# Altium footprint library Connector_Dsub.PcbLib: 120 footprints (part 4 of 8)
Each footprint in its own frame and in the unit in brackets; x right, y up, seen from the top. Pads: shape width x height; smd on the part's side, far side on the other; paste and mask are expansions set on the pad; w line width, h text height; cw(c..) or ccw(c..) is an arc to the next point about the centre after c.
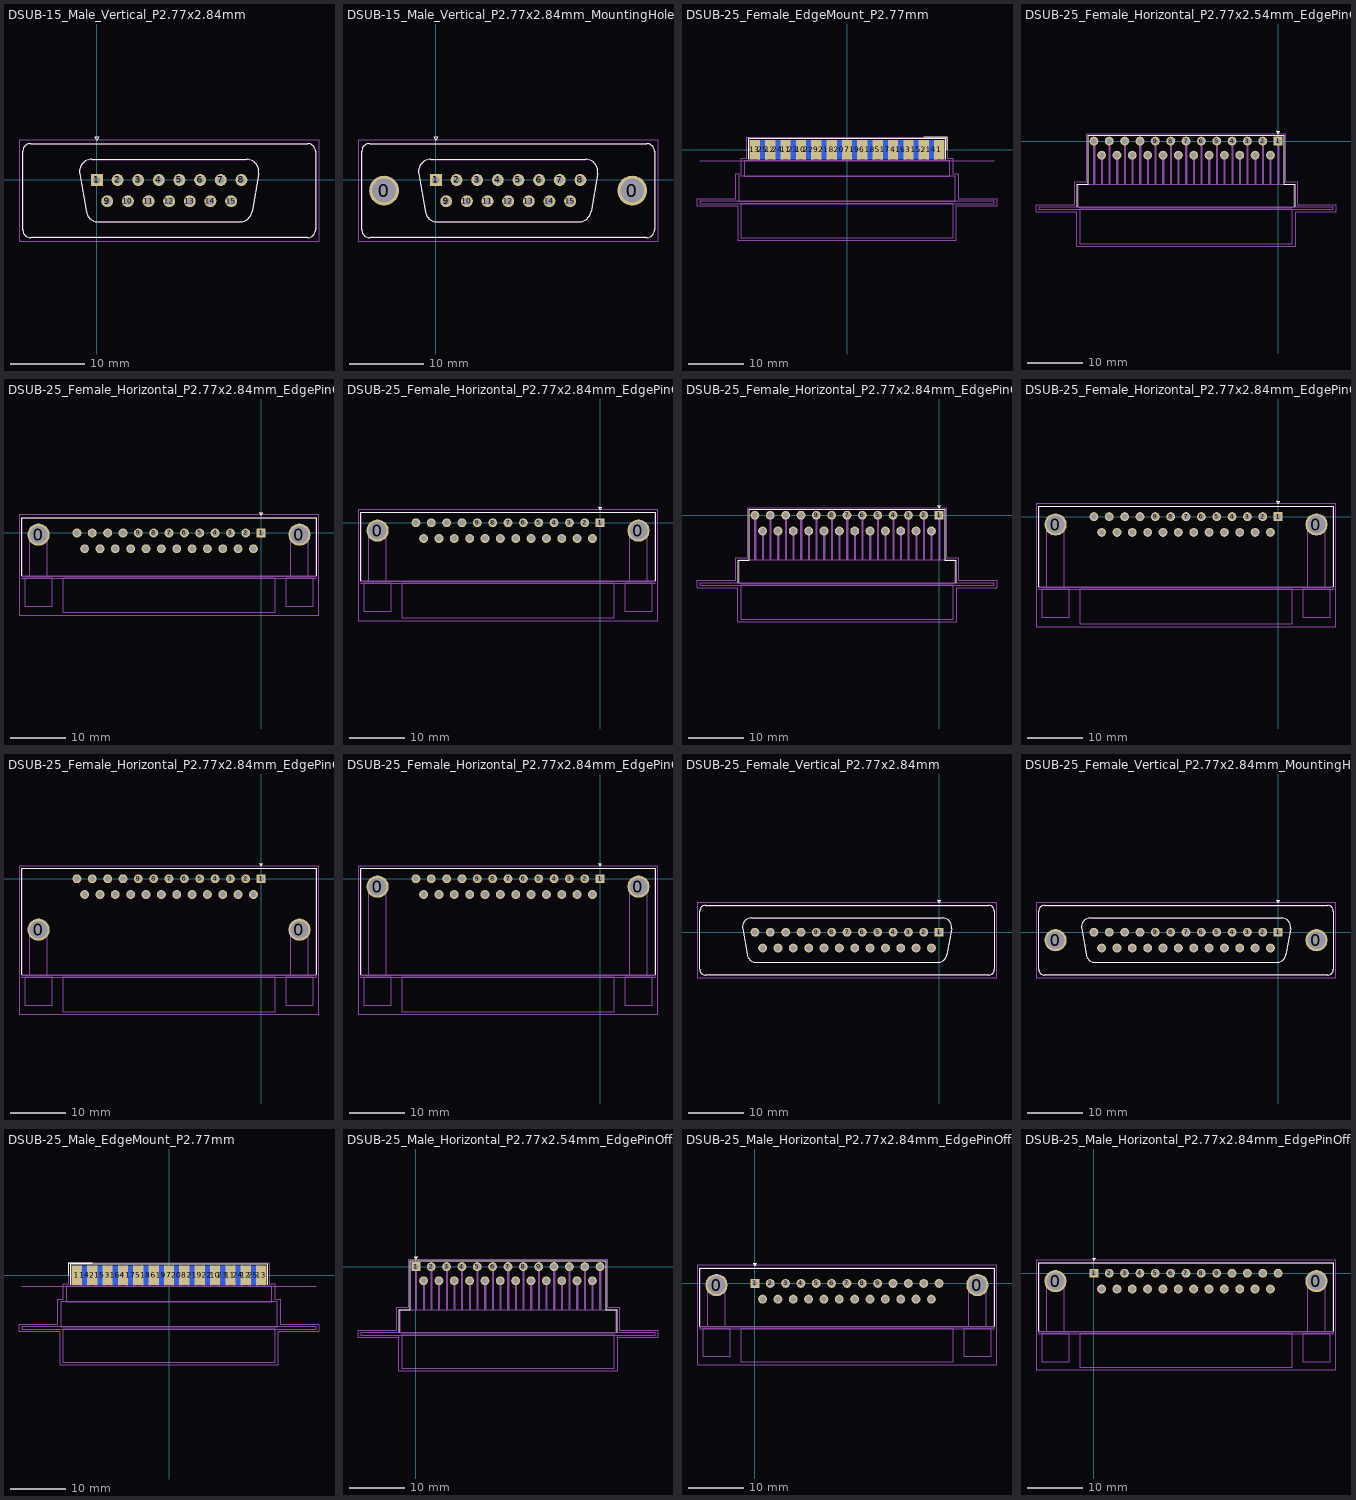
[diagram p3: the footprints below, top view; thin cyan lines are the x and y axes]

## DSUB-15_Male_Vertical_P2.77x2.84mm [mm]
pads (15):
  rect 1.6x1.6 hole 1: 1(0,0)
  round 1.6 hole 1: 2(2.77,0) 3(5.54,0) 4(8.31,0) 5(11.08,0) 6(13.85,0) 7(16.62,0) 8(19.39,0) 9(1.385,-2.84) 10(4.155,-2.84) 11(6.925,-2.84) 12(9.695,-2.84) 13(12.465,-2.84) 14(15.235,-2.84) 15(18.005,-2.84)
F.SilkS:
  lines w0.12: -9.965,-6.67 -9.965,3.83 cw(c-8.905,3.83) -8.905,4.89 28.295,4.89 cw(c28.295,3.83) 29.355,3.83 29.355,-6.67 cw(c28.295,-6.67) 28.295,-7.73 -8.905,-7.73 cw(c-8.905,-6.67) -9.965,-6.67 ; -2.321,0.842 -1.422,-4.258 ccw(c0.213,-3.97) 0.213,-5.63 19.177,-5.63 ccw(c19.177,-3.97) 20.812,-4.258 21.711,0.842 ccw(c20.077,1.13) 20.077,2.79 -0.687,2.79 ccw(c-0.687,1.13) -2.321,0.842 ; -0.25,5.784 0,5.351 0.25,5.784 -0.25,5.784
F.CrtYd:
  lines w0.05: -10.45,-8.2 29.8,-8.2 29.8,5.35 -10.45,5.35 -10.45,-8.2
F.Fab:
  lines w0.1: -9.905,-6.67 -9.905,3.83 cw(c-8.905,3.83) -8.905,4.83 28.295,4.83 cw(c28.295,3.83) 29.295,3.83 29.295,-6.67 cw(c28.295,-6.67) 28.295,-7.67 -8.905,-7.67 cw(c-8.905,-6.67) -9.905,-6.67 ; -2.274,0.852 -1.375,-4.248 ccw(c0.201,-3.97) 0.201,-5.57 19.189,-5.57 ccw(c19.189,-3.97) 20.765,-4.248 21.664,0.852 ccw(c20.088,1.13) 20.088,2.73 -0.698,2.73 ccw(c-0.698,1.13) -2.274,0.852
  text "'.Designator'" at 5.648,-2.26 h1

## DSUB-15_Male_Vertical_P2.77x2.84mm_MountingHoles [mm]
pads (17):
  round 4 hole 3.2: 0(-6.955,-1.42) 0(26.345,-1.42)
  rect 1.6x1.6 hole 1: 1(0,0)
  round 1.6 hole 1: 2(2.77,0) 3(5.54,0) 4(8.31,0) 5(11.08,0) 6(13.85,0) 7(16.62,0) 8(19.39,0) 9(1.385,-2.84) 10(4.155,-2.84) 11(6.925,-2.84) 12(9.695,-2.84) 13(12.465,-2.84) 14(15.235,-2.84) 15(18.005,-2.84)
F.SilkS:
  lines w0.12: -9.965,-6.67 -9.965,3.83 cw(c-8.905,3.83) -8.905,4.89 28.295,4.89 cw(c28.295,3.83) 29.355,3.83 29.355,-6.67 cw(c28.295,-6.67) 28.295,-7.73 -8.905,-7.73 cw(c-8.905,-6.67) -9.965,-6.67 ; -2.321,0.842 -1.422,-4.258 ccw(c0.213,-3.97) 0.213,-5.63 19.177,-5.63 ccw(c19.177,-3.97) 20.812,-4.258 21.711,0.842 ccw(c20.077,1.13) 20.077,2.79 -0.687,2.79 ccw(c-0.687,1.13) -2.321,0.842 ; -0.25,5.784 0.25,5.784 0,5.351 -0.25,5.784
F.CrtYd:
  lines w0.05: -10.45,-8.2 29.8,-8.2 29.8,5.35 -10.45,5.35 -10.45,-8.2
F.Fab:
  lines w0.1: -9.905,-6.67 -9.905,3.83 cw(c-8.905,3.83) -8.905,4.83 28.295,4.83 cw(c28.295,3.83) 29.295,3.83 29.295,-6.67 cw(c28.295,-6.67) 28.295,-7.67 -8.905,-7.67 cw(c-8.905,-6.67) -9.905,-6.67 ; -2.274,0.852 -1.375,-4.248 ccw(c0.201,-3.97) 0.201,-5.57 19.189,-5.57 ccw(c19.189,-3.97) 20.765,-4.248 21.664,0.852 ccw(c20.088,1.13) 20.088,2.73 -0.698,2.73 ccw(c-0.698,1.13) -2.274,0.852
  text "'.Designator'" at 5.648,-2.26 h1

## DSUB-25_Female_EdgeMount_P2.77mm [mm]
pads (25):
  rect 1.847x3.48 smd: 1(16.62,0) 2(13.85,0) 3(11.08,0) 4(8.31,0) 5(5.54,0) 6(2.77,0) 7(0,0) 8(-2.77,0) 9(-5.54,0) 10(-8.31,0) 11(-11.08,0) 12(-13.85,0) 13(-16.62,0)
  rect 1.847x3.48 smd far side: 14(15.235,0) 15(12.465,0) 16(9.695,0) 17(6.925,0) 18(4.155,0) 19(1.385,0) 20(-1.385,0) 21(-4.155,0) 22(-6.925,0) 23(-9.695,0) 24(-12.465,0) 25(-15.235,0)
F.SilkS:
  lines w0.12: -17.803,-1.74 -17.803,2 17.803,2 17.803,-1.74 ; 13.85,2.24 18.043,2.24 18.043,0
Dwgs.User:
  lines w0.05: -26.55,-1.99 26.55,-1.99
  text "PCB edge" at -23.273,-1.732 h0.5
F.CrtYd:
  lines w0.05: -27.05,-10.2 -27.05,-8.8 -20.05,-8.8 -20.05,-4.3 -19.05,-4.3 -19.05,-1.5 -18.05,-1.5 -18.05,2.25 18.05,2.25 18.05,-1.5 19.05,-1.5 19.05,-4.3 20.05,-4.3 20.05,-8.8 27.05,-8.8 27.05,-10.2 19.65,-10.2 19.65,-16.4 -19.65,-16.4 -19.65,-10.2 -27.05,-10.2
B.Fab:
  lines w0.1: -15.835,-1.99 -15.835,0.91 -14.635,0.91 -14.635,-1.99 -15.835,-1.99 ; -13.065,-1.99 -11.865,-1.99 -11.865,0.91 -13.065,0.91 -13.065,-1.99 ; -10.295,-1.99 -10.295,0.91 -9.095,0.91 -9.095,-1.99 -10.295,-1.99 ; -7.525,-1.99 -7.525,0.91 -6.325,0.91 -6.325,-1.99 -7.525,-1.99 ; -4.755,-1.99 -3.555,-1.99 -3.555,0.91 -4.755,0.91 -4.755,-1.99 ; -1.985,-1.99 -1.985,0.91 -0.785,0.91 -0.785,-1.99 -1.985,-1.99 ; 0.785,-1.99 1.985,-1.99 1.985,0.91 0.785,0.91 0.785,-1.99 ; 3.555,-1.99 3.555,0.91 4.755,0.91 4.755,-1.99 3.555,-1.99 ; 6.325,-1.99 7.525,-1.99 7.525,0.91 6.325,0.91 6.325,-1.99 ; 9.095,-1.99 10.295,-1.99 10.295,0.91 9.095,0.91 9.095,-1.99 ; 11.865,-1.99 13.065,-1.99 13.065,0.91 11.865,0.91 11.865,-1.99 ; 14.635,-1.99 14.635,0.91 15.835,0.91 15.835,-1.99 14.635,-1.99
F.Fab:
  lines w0.1: -26.55,-9.69 -26.55,-9.29 26.55,-9.29 26.55,-9.69 -26.55,-9.69 ; -19.55,-9.29 19.55,-9.29 19.55,-4.79 -19.55,-4.79 -19.55,-9.29 ; -19.15,-15.86 19.15,-15.86 19.15,-9.69 -19.15,-9.69 -19.15,-15.86 ; -18.55,-4.79 18.55,-4.79 18.55,-1.99 -18.55,-1.99 -18.55,-4.79 ; -17.22,-1.99 -16.02,-1.99 -16.02,0.91 -17.22,0.91 -17.22,-1.99 ; -14.45,-1.99 -13.25,-1.99 -13.25,0.91 -14.45,0.91 -14.45,-1.99 ; -11.68,-1.99 -10.48,-1.99 -10.48,0.91 -11.68,0.91 -11.68,-1.99 ; -8.91,-1.99 -7.71,-1.99 -7.71,0.91 -8.91,0.91 -8.91,-1.99 ; -6.14,-1.99 -4.94,-1.99 -4.94,0.91 -6.14,0.91 -6.14,-1.99 ; -3.37,-1.99 -3.37,0.91 -2.17,0.91 -2.17,-1.99 -3.37,-1.99 ; -0.6,-1.99 0.6,-1.99 0.6,0.91 -0.6,0.91 -0.6,-1.99 ; 2.17,-1.99 3.37,-1.99 3.37,0.91 2.17,0.91 2.17,-1.99 ; 4.94,-1.99 6.14,-1.99 6.14,0.91 4.94,0.91 4.94,-1.99 ; 7.71,-1.99 8.91,-1.99 8.91,0.91 7.71,0.91 7.71,-1.99 ; 10.48,-1.99 11.68,-1.99 11.68,0.91 10.48,0.91 10.48,-1.99 ; 13.25,-1.99 14.45,-1.99 14.45,0.91 13.25,0.91 13.25,-1.99 ; 16.02,-1.99 16.02,0.91 17.22,0.91 17.22,-1.99 16.02,-1.99
  text "'.Designator'" at -4.047,-4.23 h1

## DSUB-25_Female_Horizontal_P2.77x2.54mm_EdgePinOffset9.40mm [mm]
pads (25):
  rect 1.6x1.6 hole 1: 1(0,0)
  round 1.6 hole 1: 2(-2.77,0) 3(-5.54,0) 4(-8.31,0) 5(-11.08,0) 6(-13.85,0) 7(-16.62,0) 8(-19.39,0) 9(-22.16,0) 10(-24.93,0) 11(-27.7,0) 12(-30.47,0) 13(-33.24,0) 14(-1.385,-2.54) 15(-4.155,-2.54) 16(-6.925,-2.54) 17(-9.695,-2.54) 18(-12.465,-2.54) 19(-15.235,-2.54) 20(-18.005,-2.54) 21(-20.775,-2.54) 22(-23.545,-2.54) 23(-26.315,-2.54) 24(-29.085,-2.54) 25(-31.855,-2.54)
F.SilkS:
  lines w0.12: -36.23,-11.88 -36.23,-7.78 -34.3,-7.78 -34.3,1.06 1.06,1.06 1.06,-7.78 2.99,-7.78 2.99,-11.88 ; -0.25,1.754 0.25,1.754 0,1.321 -0.25,1.754
F.CrtYd:
  lines w0.05: -43.7,-12.85 -36.3,-12.85 -36.3,-19.05 3.05,-19.05 3.05,-12.85 10.45,-12.85 10.45,-11.45 3.45,-11.45 3.45,-7.35 1.3,-7.35 1.3,1.35 -34.55,1.35 -34.55,-7.35 -36.7,-7.35 -36.7,-11.45 -43.7,-11.45 -43.7,-12.85
F.Fab:
  lines w0.1: -33.34,-7.84 -33.34,0 ; -33.24,-7.84 -33.24,0 ; -33.14,-7.84 -33.14,0 ; -31.955,-7.84 -31.955,-2.54 ; -31.855,-7.84 -31.855,-2.54 ; -31.755,-7.84 -31.755,-2.54 ; -30.57,-7.84 -30.57,0 ; -30.47,-7.84 -30.47,0 ; -30.37,-7.84 -30.37,0 ; -29.185,-7.84 -29.185,-2.54 ; -29.085,-7.84 -29.085,-2.54 ; -28.985,-7.84 -28.985,-2.54 ; -27.8,-7.84 -27.8,0 ; -27.7,-7.84 -27.7,0 ; -27.6,-7.84 -27.6,0 ; -26.415,-7.84 -26.415,-2.54 ; -26.315,-7.84 -26.315,-2.54 ; -26.215,-7.84 -26.215,-2.54 ; -25.03,-7.84 -25.03,0 ; -24.93,-7.84 -24.93,0 ; -24.83,-7.84 -24.83,0 ; -23.645,-7.84 -23.645,-2.54 ; -23.545,-7.84 -23.545,-2.54 ; -23.445,-7.84 -23.445,-2.54 ; -22.26,-7.84 -22.26,0 ; -22.16,-7.84 -22.16,0 ; -22.06,-7.84 -22.06,0 ; -20.875,-7.84 -20.875,-2.54 ; -20.775,-7.84 -20.775,-2.54 ; -20.675,-7.84 -20.675,-2.54 ; -19.49,-7.84 -19.49,0 ; -19.39,-7.84 -19.39,0 ; -19.29,-7.84 -19.29,0 ; -18.105,-7.84 -18.105,-2.54 ; -18.005,-7.84 -18.005,-2.54 ; -17.905,-7.84 -17.905,-2.54 ; -16.72,-7.84 -16.72,0 ; -16.62,-7.84 -16.62,0 ; -16.52,-7.84 -16.52,0 ; -15.335,-7.84 -15.335,-2.54 ; -15.235,-7.84 -15.235,-2.54 ; -15.135,-7.84 -15.135,-2.54 ; -13.95,-7.84 -13.95,0 ; -13.85,-7.84 -13.85,0 ; -13.75,-7.84 -13.75,0 ; -12.565,-7.84 -12.565,-2.54 ; -12.465,-7.84 -12.465,-2.54 ; -12.365,-7.84 -12.365,-2.54 ; -11.18,-7.84 -11.18,0 ; -11.08,-7.84 -11.08,0 ; -10.98,-7.84 -10.98,0 ; -9.795,-7.84 -9.795,-2.54 ; -9.695,-7.84 -9.695,-2.54 ; -9.595,-7.84 -9.595,-2.54 ; -8.41,-7.84 -8.41,0 ; -8.31,-7.84 -8.31,0 ; -8.21,-7.84 -8.21,0 ; -7.025,-7.84 -7.025,-2.54 ; -6.925,-7.84 -6.925,-2.54 ; -6.825,-7.84 -6.825,-2.54 ; -5.64,-7.84 -5.64,0 ; -5.54,-7.84 -5.54,0 ; -5.44,-7.84 -5.44,0 ; -4.255,-7.84 -4.255,-2.54 ; -4.155,-7.84 -4.155,-2.54 ; -4.055,-7.84 -4.055,-2.54 ; -2.87,-7.84 -2.87,0 ; -2.77,-7.84 -2.77,0 ; -2.67,-7.84 -2.67,0 ; -1.485,-7.84 -1.485,-2.54 ; -1.385,-7.84 -1.385,-2.54 ; -1.285,-7.84 -1.285,-2.54 ; -0.1,-7.84 -0.1,0 ; 0,-7.84 0,0 ; 0.1,-7.84 0.1,0 ; -43.17,-12.34 -43.17,-11.94 9.93,-11.94 9.93,-12.34 -43.17,-12.34 ; -36.17,-11.94 -36.17,-7.84 2.93,-7.84 2.93,-11.94 -36.17,-11.94 ; -35.77,-18.51 2.53,-18.51 2.53,-12.34 -35.77,-12.34 -35.77,-18.51
  text "'.Designator'" at -20.667,-16.265 h1

## DSUB-25_Female_Horizontal_P2.77x2.84mm_EdgePinOffset4.94mm_Housed_MountingHolesOffset7.48mm [mm]
pads (27):
  round 4 hole 3.2: 0(-40.17,-0.3) 0(6.93,-0.3)
  rect 1.6x1.6 hole 1: 1(0,0)
  round 1.6 hole 1: 2(-2.77,0) 3(-5.54,0) 4(-8.31,0) 5(-11.08,0) 6(-13.85,0) 7(-16.62,0) 8(-19.39,0) 9(-22.16,0) 10(-24.93,0) 11(-27.7,0) 12(-30.47,0) 13(-33.24,0) 14(-1.385,-2.84) 15(-4.155,-2.84) 16(-6.925,-2.84) 17(-9.695,-2.84) 18(-12.465,-2.84) 19(-15.235,-2.84) 20(-18.005,-2.84) 21(-20.775,-2.84) 22(-23.545,-2.84) 23(-26.315,-2.84) 24(-29.085,-2.84) 25(-31.855,-2.84)
F.SilkS:
  lines w0.12: -43.23,-7.72 -43.23,2.76 9.99,2.76 9.99,-7.72 ; -0.25,3.654 0.25,3.654 0,3.221 -0.25,3.654
F.CrtYd:
  lines w0.05: -43.7,-14.85 10.45,-14.85 10.45,3.25 -43.7,3.25 -43.7,-14.85
F.Fab:
  lines w0.1: -41.77,-7.78 -41.77,-0.3 cw(c-40.17,-0.3) -38.57,-0.3 -38.57,-7.78 ; 5.33,-7.78 5.33,-0.3 cw(c6.93,-0.3) 8.53,-0.3 8.53,-7.78 ; -43.17,-7.78 9.93,-7.78 ; -43.17,-7.78 -43.17,2.7 9.93,2.7 9.93,-7.78 ; -43.17,-7.78 9.93,-7.78 ; -43.17,-7.78 -43.17,-8.18 9.93,-8.18 9.93,-7.78 ; -42.67,-13.18 -42.67,-8.18 -37.67,-8.18 -37.67,-13.18 -42.67,-13.18 ; -35.77,-14.35 -35.77,-8.18 2.53,-8.18 2.53,-14.35 -35.77,-14.35 ; 4.43,-13.18 4.43,-8.18 9.43,-8.18 9.43,-13.18 4.43,-13.18
  text "'.Designator'" at -20.667,-12.105 h1

## DSUB-25_Female_Horizontal_P2.77x2.84mm_EdgePinOffset7.70mm_Housed_MountingHolesOffset9.12mm [mm]
pads (27):
  round 4 hole 3.2: 0(-40.17,-1.42) 0(6.93,-1.42)
  rect 1.6x1.6 hole 1: 1(0,0)
  round 1.6 hole 1: 2(-2.77,0) 3(-5.54,0) 4(-8.31,0) 5(-11.08,0) 6(-13.85,0) 7(-16.62,0) 8(-19.39,0) 9(-22.16,0) 10(-24.93,0) 11(-27.7,0) 12(-30.47,0) 13(-33.24,0) 14(-1.385,-2.84) 15(-4.155,-2.84) 16(-6.925,-2.84) 17(-9.695,-2.84) 18(-12.465,-2.84) 19(-15.235,-2.84) 20(-18.005,-2.84) 21(-20.775,-2.84) 22(-23.545,-2.84) 23(-26.315,-2.84) 24(-29.085,-2.84) 25(-31.855,-2.84)
F.SilkS:
  lines w0.12: -43.23,-10.48 -43.23,1.86 9.99,1.86 9.99,-10.48 ; -0.25,2.754 0.25,2.754 0,2.321 -0.25,2.754
F.CrtYd:
  lines w0.05: -43.7,-17.65 10.45,-17.65 10.45,2.35 -43.7,2.35 -43.7,-17.65
F.Fab:
  lines w0.1: -41.77,-10.54 -41.77,-1.42 cw(c-40.17,-1.42) -38.57,-1.42 -38.57,-10.54 ; 5.33,-10.54 5.33,-1.42 cw(c6.93,-1.42) 8.53,-1.42 8.53,-10.54 ; -43.17,-10.54 -43.17,1.8 9.93,1.8 9.93,-10.54 ; -43.17,-10.54 9.93,-10.54 ; -43.17,-10.54 -43.17,-10.94 9.93,-10.94 9.93,-10.54 ; -43.17,-10.54 9.93,-10.54 ; -42.67,-15.94 -37.67,-15.94 -37.67,-10.94 -42.67,-10.94 -42.67,-15.94 ; -35.77,-17.11 2.53,-17.11 2.53,-10.94 -35.77,-10.94 -35.77,-17.11 ; 4.43,-15.94 9.43,-15.94 9.43,-10.94 4.43,-10.94 4.43,-15.94
  text "'.Designator'" at -20.667,-14.865 h1

## DSUB-25_Female_Horizontal_P2.77x2.84mm_EdgePinOffset9.40mm [mm]
pads (25):
  rect 1.6x1.6 hole 1: 1(0,0)
  round 1.6 hole 1: 2(-2.77,0) 3(-5.54,0) 4(-8.31,0) 5(-11.08,0) 6(-13.85,0) 7(-16.62,0) 8(-19.39,0) 9(-22.16,0) 10(-24.93,0) 11(-27.7,0) 12(-30.47,0) 13(-33.24,0) 14(-1.385,-2.84) 15(-4.155,-2.84) 16(-6.925,-2.84) 17(-9.695,-2.84) 18(-12.465,-2.84) 19(-15.235,-2.84) 20(-18.005,-2.84) 21(-20.775,-2.84) 22(-23.545,-2.84) 23(-26.315,-2.84) 24(-29.085,-2.84) 25(-31.855,-2.84)
F.SilkS:
  lines w0.12: -36.23,-12.18 -36.23,-8.08 -34.3,-8.08 -34.3,1.06 1.06,1.06 1.06,-8.08 2.99,-8.08 2.99,-12.18 ; -0.25,1.754 0.25,1.754 0,1.321 -0.25,1.754
F.CrtYd:
  lines w0.05: -43.7,-13.15 -36.3,-13.15 -36.3,-19.35 3.05,-19.35 3.05,-13.15 10.45,-13.15 10.45,-11.75 3.45,-11.75 3.45,-7.65 1.3,-7.65 1.3,1.35 -34.55,1.35 -34.55,-7.65 -36.7,-7.65 -36.7,-11.75 -43.7,-11.75 -43.7,-13.15
F.Fab:
  lines w0.1: -33.34,-8.14 -33.34,0 ; -33.24,-8.14 -33.24,0 ; -33.14,-8.14 -33.14,0 ; -31.955,-8.14 -31.955,-2.84 ; -31.855,-8.14 -31.855,-2.84 ; -31.755,-8.14 -31.755,-2.84 ; -30.57,-8.14 -30.57,0 ; -30.47,-8.14 -30.47,0 ; -30.37,-8.14 -30.37,0 ; -29.185,-8.14 -29.185,-2.84 ; -29.085,-8.14 -29.085,-2.84 ; -28.985,-8.14 -28.985,-2.84 ; -27.8,-8.14 -27.8,0 ; -27.7,-8.14 -27.7,0 ; -27.6,-8.14 -27.6,0 ; -26.415,-8.14 -26.415,-2.84 ; -26.315,-8.14 -26.315,-2.84 ; -26.215,-8.14 -26.215,-2.84 ; -25.03,-8.14 -25.03,0 ; -24.93,-8.14 -24.93,0 ; -24.83,-8.14 -24.83,0 ; -23.645,-8.14 -23.645,-2.84 ; -23.545,-8.14 -23.545,-2.84 ; -23.445,-8.14 -23.445,-2.84 ; -22.26,-8.14 -22.26,0 ; -22.16,-8.14 -22.16,0 ; -22.06,-8.14 -22.06,0 ; -20.875,-8.14 -20.875,-2.84 ; -20.775,-8.14 -20.775,-2.84 ; -20.675,-8.14 -20.675,-2.84 ; -19.49,-8.14 -19.49,0 ; -19.39,-8.14 -19.39,0 ; -19.29,-8.14 -19.29,0 ; -18.105,-8.14 -18.105,-2.84 ; -18.005,-8.14 -18.005,-2.84 ; -17.905,-8.14 -17.905,-2.84 ; -16.72,-8.14 -16.72,0 ; -16.62,-8.14 -16.62,0 ; -16.52,-8.14 -16.52,0 ; -15.335,-8.14 -15.335,-2.84 ; -15.235,-8.14 -15.235,-2.84 ; -15.135,-8.14 -15.135,-2.84 ; -13.95,-8.14 -13.95,0 ; -13.85,-8.14 -13.85,0 ; -13.75,-8.14 -13.75,0 ; -12.565,-8.14 -12.565,-2.84 ; -12.465,-8.14 -12.465,-2.84 ; -12.365,-8.14 -12.365,-2.84 ; -11.18,-8.14 -11.18,0 ; -11.08,-8.14 -11.08,0 ; -10.98,-8.14 -10.98,0 ; -9.795,-8.14 -9.795,-2.84 ; -9.695,-8.14 -9.695,-2.84 ; -9.595,-8.14 -9.595,-2.84 ; -8.41,-8.14 -8.41,0 ; -8.31,-8.14 -8.31,0 ; -8.21,-8.14 -8.21,0 ; -7.025,-8.14 -7.025,-2.84 ; -6.925,-8.14 -6.925,-2.84 ; -6.825,-8.14 -6.825,-2.84 ; -5.64,-8.14 -5.64,0 ; -5.54,-8.14 -5.54,0 ; -5.44,-8.14 -5.44,0 ; -4.255,-8.14 -4.255,-2.84 ; -4.155,-8.14 -4.155,-2.84 ; -4.055,-8.14 -4.055,-2.84 ; -2.87,-8.14 -2.87,0 ; -2.77,-8.14 -2.77,0 ; -2.67,-8.14 -2.67,0 ; -1.485,-8.14 -1.485,-2.84 ; -1.385,-8.14 -1.385,-2.84 ; -1.285,-8.14 -1.285,-2.84 ; -0.1,-8.14 -0.1,0 ; 0,-8.14 0,0 ; 0.1,-8.14 0.1,0 ; -43.17,-12.64 9.93,-12.64 9.93,-12.24 -43.17,-12.24 -43.17,-12.64 ; -36.17,-12.24 2.93,-12.24 2.93,-8.14 -36.17,-8.14 -36.17,-12.24 ; -35.77,-18.81 2.53,-18.81 2.53,-12.64 -35.77,-12.64 -35.77,-18.81
  text "'.Designator'" at -20.667,-16.565 h1

## DSUB-25_Female_Horizontal_P2.77x2.84mm_EdgePinOffset9.90mm_Housed_MountingHolesOffset11.32mm [mm]
pads (27):
  round 4 hole 3.2: 0(-40.17,-1.42) 0(6.93,-1.42)
  rect 1.6x1.6 hole 1: 1(0,0)
  round 1.6 hole 1: 2(-2.77,0) 3(-5.54,0) 4(-8.31,0) 5(-11.08,0) 6(-13.85,0) 7(-16.62,0) 8(-19.39,0) 9(-22.16,0) 10(-24.93,0) 11(-27.7,0) 12(-30.47,0) 13(-33.24,0) 14(-1.385,-2.84) 15(-4.155,-2.84) 16(-6.925,-2.84) 17(-9.695,-2.84) 18(-12.465,-2.84) 19(-15.235,-2.84) 20(-18.005,-2.84) 21(-20.775,-2.84) 22(-23.545,-2.84) 23(-26.315,-2.84) 24(-29.085,-2.84) 25(-31.855,-2.84)
F.SilkS:
  lines w0.12: -43.23,-12.68 -43.23,1.86 9.99,1.86 9.99,-12.68 ; -0.25,2.754 0.25,2.754 0,2.321 -0.25,2.754
F.CrtYd:
  lines w0.05: -43.7,-19.85 10.45,-19.85 10.45,2.35 -43.7,2.35 -43.7,-19.85
F.Fab:
  lines w0.1: -41.77,-12.74 -41.77,-1.42 cw(c-40.17,-1.42) -38.57,-1.42 -38.57,-12.74 ; 5.33,-12.74 5.33,-1.42 cw(c6.93,-1.42) 8.53,-1.42 8.53,-12.74 ; -43.17,-12.74 -43.17,1.8 9.93,1.8 9.93,-12.74 ; -43.17,-12.74 -43.17,-13.14 9.93,-13.14 9.93,-12.74 ; -43.17,-12.74 9.93,-12.74 ; -43.17,-12.74 9.93,-12.74 ; -42.67,-18.14 -37.67,-18.14 -37.67,-13.14 -42.67,-13.14 -42.67,-18.14 ; -35.77,-19.31 2.53,-19.31 2.53,-13.14 -35.77,-13.14 -35.77,-19.31 ; 4.43,-18.14 9.43,-18.14 9.43,-13.14 4.43,-13.14 4.43,-18.14
  text "'.Designator'" at -20.667,-17.065 h1

## DSUB-25_Female_Horizontal_P2.77x2.84mm_EdgePinOffset14.56mm_Housed_MountingHolesOffset8.20mm [mm]
pads (27):
  round 4 hole 3.2: 0(-40.17,-9.2) 0(6.93,-9.2)
  rect 1.6x1.6 hole 1: 1(0,0)
  round 1.6 hole 1: 2(-2.77,0) 3(-5.54,0) 4(-8.31,0) 5(-11.08,0) 6(-13.85,0) 7(-16.62,0) 8(-19.39,0) 9(-22.16,0) 10(-24.93,0) 11(-27.7,0) 12(-30.47,0) 13(-33.24,0) 14(-1.385,-2.84) 15(-4.155,-2.84) 16(-6.925,-2.84) 17(-9.695,-2.84) 18(-12.465,-2.84) 19(-15.235,-2.84) 20(-18.005,-2.84) 21(-20.775,-2.84) 22(-23.545,-2.84) 23(-26.315,-2.84) 24(-29.085,-2.84) 25(-31.855,-2.84)
F.SilkS:
  lines w0.12: -43.23,-17.34 -43.23,1.86 9.99,1.86 9.99,-17.34 ; -0.25,2.754 0.25,2.754 0,2.321 -0.25,2.754
F.CrtYd:
  lines w0.05: -43.7,-24.5 10.45,-24.5 10.45,2.3 -43.7,2.3 -43.7,-24.5
F.Fab:
  lines w0.1: -41.77,-17.4 -41.77,-9.2 cw(c-40.17,-9.2) -38.57,-9.2 -38.57,-17.4 ; 5.33,-17.4 5.33,-9.2 cw(c6.93,-9.2) 8.53,-9.2 8.53,-17.4 ; -43.17,-17.4 9.93,-17.4 ; -43.17,-17.4 9.93,-17.4 ; -43.17,-17.4 -43.17,-17.8 9.93,-17.8 9.93,-17.4 ; -43.17,-17.4 -43.17,1.8 9.93,1.8 9.93,-17.4 ; -42.67,-22.8 -37.67,-22.8 -37.67,-17.8 -42.67,-17.8 -42.67,-22.8 ; -35.77,-23.97 2.53,-23.97 2.53,-17.8 -35.77,-17.8 -35.77,-23.97 ; 4.43,-22.8 9.43,-22.8 9.43,-17.8 4.43,-17.8 4.43,-22.8
  text "'.Designator'" at -20.667,-21.725 h1

## DSUB-25_Female_Horizontal_P2.77x2.84mm_EdgePinOffset14.56mm_Housed_MountingHolesOffset15.98mm [mm]
pads (27):
  round 4 hole 3.2: 0(-40.17,-1.42) 0(6.93,-1.42)
  rect 1.6x1.6 hole 1: 1(0,0)
  round 1.6 hole 1: 2(-2.77,0) 3(-5.54,0) 4(-8.31,0) 5(-11.08,0) 6(-13.85,0) 7(-16.62,0) 8(-19.39,0) 9(-22.16,0) 10(-24.93,0) 11(-27.7,0) 12(-30.47,0) 13(-33.24,0) 14(-1.385,-2.84) 15(-4.155,-2.84) 16(-6.925,-2.84) 17(-9.695,-2.84) 18(-12.465,-2.84) 19(-15.235,-2.84) 20(-18.005,-2.84) 21(-20.775,-2.84) 22(-23.545,-2.84) 23(-26.315,-2.84) 24(-29.085,-2.84) 25(-31.855,-2.84)
F.SilkS:
  lines w0.12: -43.23,-17.34 -43.23,1.86 9.99,1.86 9.99,-17.34 ; -0.25,2.754 0,2.321 0.25,2.754 -0.25,2.754
F.CrtYd:
  lines w0.05: -43.7,-24.5 -43.7,2.3 10.45,2.3 10.45,-24.5 -43.7,-24.5
F.Fab:
  lines w0.1: -41.77,-17.4 -41.77,-1.42 cw(c-40.17,-1.42) -38.57,-1.42 -38.57,-17.4 ; 5.33,-17.4 5.33,-1.42 cw(c6.93,-1.42) 8.53,-1.42 8.53,-17.4 ; -43.17,-17.4 -43.17,1.8 9.93,1.8 9.93,-17.4 ; -43.17,-17.4 9.93,-17.4 ; -43.17,-17.4 -43.17,-17.8 9.93,-17.8 9.93,-17.4 ; -43.17,-17.4 9.93,-17.4 ; -42.67,-22.8 -42.67,-17.8 -37.67,-17.8 -37.67,-22.8 -42.67,-22.8 ; -35.77,-23.97 2.53,-23.97 2.53,-17.8 -35.77,-17.8 -35.77,-23.97 ; 4.43,-22.8 9.43,-22.8 9.43,-17.8 4.43,-17.8 4.43,-22.8
  text "'.Designator'" at -20.667,-21.725 h1

## DSUB-25_Female_Vertical_P2.77x2.84mm [mm]
pads (25):
  rect 1.6x1.6 hole 1: 1(0,0)
  round 1.6 hole 1: 2(-2.77,0) 3(-5.54,0) 4(-8.31,0) 5(-11.08,0) 6(-13.85,0) 7(-16.62,0) 8(-19.39,0) 9(-22.16,0) 10(-24.93,0) 11(-27.7,0) 12(-30.47,0) 13(-33.24,0) 14(-1.385,-2.84) 15(-4.155,-2.84) 16(-6.925,-2.84) 17(-9.695,-2.84) 18(-12.465,-2.84) 19(-15.235,-2.84) 20(-18.005,-2.84) 21(-20.775,-2.84) 22(-23.545,-2.84) 23(-26.315,-2.84) 24(-29.085,-2.84) 25(-31.855,-2.84)
F.SilkS:
  lines w0.12: -43.23,-6.67 -43.23,3.83 cw(c-42.17,3.83) -42.17,4.89 8.93,4.89 cw(c8.93,3.83) 9.99,3.83 9.99,-6.67 cw(c8.93,-6.67) 8.93,-7.73 -42.17,-7.73 cw(c-42.17,-6.67) -43.23,-6.67 ; -35.486,0.642 -34.658,-4.058 ccw(c-33.023,-3.77) -33.023,-5.43 -0.217,-5.43 ccw(c-0.217,-3.77) 1.418,-4.058 2.246,0.642 ccw(c0.612,0.93) 0.612,2.59 -33.852,2.59 ccw(c-33.852,0.93) -35.486,0.642 ; -0.25,5.784 0.25,5.784 0,5.351 -0.25,5.784
F.CrtYd:
  lines w0.05: -43.7,-8.2 -43.7,5.35 10.45,5.35 10.45,-8.2 -43.7,-8.2
F.Fab:
  lines w0.1: -43.17,-6.67 -43.17,3.83 cw(c-42.17,3.83) -42.17,4.83 8.93,4.83 cw(c8.93,3.83) 9.93,3.83 9.93,-6.67 cw(c8.93,-6.67) 8.93,-7.67 -42.17,-7.67 cw(c-42.17,-6.67) -43.17,-6.67 ; -35.439,0.652 -34.61,-4.048 ccw(c-33.034,-3.77) -33.034,-5.37 -0.206,-5.37 ccw(c-0.206,-3.77) 1.37,-4.048 2.199,0.652 ccw(c0.623,0.93) 0.623,2.53 -33.863,2.53 ccw(c-33.863,0.93) -35.439,0.652
  text "'.Designator'" at -20.667,-2.26 h1

## DSUB-25_Female_Vertical_P2.77x2.84mm_MountingHoles [mm]
pads (27):
  round 4 hole 3.2: 0(-40.17,-1.42) 0(6.93,-1.42)
  rect 1.6x1.6 hole 1: 1(0,0)
  round 1.6 hole 1: 2(-2.77,0) 3(-5.54,0) 4(-8.31,0) 5(-11.08,0) 6(-13.85,0) 7(-16.62,0) 8(-19.39,0) 9(-22.16,0) 10(-24.93,0) 11(-27.7,0) 12(-30.47,0) 13(-33.24,0) 14(-1.385,-2.84) 15(-4.155,-2.84) 16(-6.925,-2.84) 17(-9.695,-2.84) 18(-12.465,-2.84) 19(-15.235,-2.84) 20(-18.005,-2.84) 21(-20.775,-2.84) 22(-23.545,-2.84) 23(-26.315,-2.84) 24(-29.085,-2.84) 25(-31.855,-2.84)
F.SilkS:
  lines w0.12: -43.23,-6.67 -43.23,3.83 cw(c-42.17,3.83) -42.17,4.89 8.93,4.89 cw(c8.93,3.83) 9.99,3.83 9.99,-6.67 cw(c8.93,-6.67) 8.93,-7.73 -42.17,-7.73 cw(c-42.17,-6.67) -43.23,-6.67 ; -35.486,0.642 -34.658,-4.058 ccw(c-33.023,-3.77) -33.023,-5.43 -0.217,-5.43 ccw(c-0.217,-3.77) 1.418,-4.058 2.246,0.642 ccw(c0.612,0.93) 0.612,2.59 -33.852,2.59 ccw(c-33.852,0.93) -35.486,0.642 ; -0.25,5.784 0.25,5.784 0,5.351 -0.25,5.784
F.CrtYd:
  lines w0.05: -43.7,-8.2 10.45,-8.2 10.45,5.35 -43.7,5.35 -43.7,-8.2
F.Fab:
  lines w0.1: -43.17,-6.67 -43.17,3.83 cw(c-42.17,3.83) -42.17,4.83 8.93,4.83 cw(c8.93,3.83) 9.93,3.83 9.93,-6.67 cw(c8.93,-6.67) 8.93,-7.67 -42.17,-7.67 cw(c-42.17,-6.67) -43.17,-6.67 ; -35.439,0.652 -34.61,-4.048 ccw(c-33.034,-3.77) -33.034,-5.37 -0.206,-5.37 ccw(c-0.206,-3.77) 1.37,-4.048 2.199,0.652 ccw(c0.623,0.93) 0.623,2.53 -33.863,2.53 ccw(c-33.863,0.93) -35.439,0.652
  text "'.Designator'" at -20.667,-2.26 h1

## DSUB-25_Male_EdgeMount_P2.77mm [mm]
pads (25):
  rect 1.847x3.48 smd: 1(-16.62,0) 2(-13.85,0) 3(-11.08,0) 4(-8.31,0) 5(-5.54,0) 6(-2.77,0) 7(0,0) 8(2.77,0) 9(5.54,0) 10(8.31,0) 11(11.08,0) 12(13.85,0) 13(16.62,0)
  rect 1.847x3.48 smd far side: 14(-15.235,0) 15(-12.465,0) 16(-9.695,0) 17(-6.925,0) 18(-4.155,0) 19(-1.385,0) 20(1.385,0) 21(4.155,0) 22(6.925,0) 23(9.695,0) 24(12.465,0) 25(15.235,0)
F.SilkS:
  lines w0.12: -18.043,0 -18.043,2.24 -13.85,2.24 ; -17.803,-1.74 -17.803,2 17.803,2 17.803,-1.74
Dwgs.User:
  lines w0.05: -26.55,-1.99 26.55,-1.99
  text "PCB edge" at -23.273,-1.732 h0.5
F.CrtYd:
  lines w0.05: -27.05,-10.2 -19.65,-10.2 -19.65,-16.2 19.65,-16.2 19.65,-10.2 27.05,-10.2 27.05,-8.8 20.05,-8.8 20.05,-4.3 19.05,-4.3 19.05,-1.5 18.05,-1.5 18.05,2.25 -18.05,2.25 -18.05,-1.5 -19.05,-1.5 -19.05,-4.3 -20.05,-4.3 -20.05,-8.8 -27.05,-8.8 -27.05,-10.2
B.Fab:
  lines w0.1: -15.835,-1.99 -14.635,-1.99 -14.635,0.91 -15.835,0.91 -15.835,-1.99 ; -13.065,-1.99 -11.865,-1.99 -11.865,0.91 -13.065,0.91 -13.065,-1.99 ; -10.295,-1.99 -9.095,-1.99 -9.095,0.91 -10.295,0.91 -10.295,-1.99 ; -7.525,-1.99 -6.325,-1.99 -6.325,0.91 -7.525,0.91 -7.525,-1.99 ; -4.755,-1.99 -4.755,0.91 -3.555,0.91 -3.555,-1.99 -4.755,-1.99 ; -1.985,-1.99 -0.785,-1.99 -0.785,0.91 -1.985,0.91 -1.985,-1.99 ; 0.785,-1.99 0.785,0.91 1.985,0.91 1.985,-1.99 0.785,-1.99 ; 3.555,-1.99 4.755,-1.99 4.755,0.91 3.555,0.91 3.555,-1.99 ; 6.325,-1.99 7.525,-1.99 7.525,0.91 6.325,0.91 6.325,-1.99 ; 9.095,-1.99 9.095,0.91 10.295,0.91 10.295,-1.99 9.095,-1.99 ; 11.865,-1.99 13.065,-1.99 13.065,0.91 11.865,0.91 11.865,-1.99 ; 14.635,-1.99 15.835,-1.99 15.835,0.91 14.635,0.91 14.635,-1.99
F.Fab:
  lines w0.1: -26.55,-9.69 26.55,-9.69 26.55,-9.29 -26.55,-9.29 -26.55,-9.69 ; -19.55,-9.29 -19.55,-4.79 19.55,-4.79 19.55,-9.29 -19.55,-9.29 ; -19.15,-15.69 -19.15,-9.69 19.15,-9.69 19.15,-15.69 -19.15,-15.69 ; -18.55,-4.79 18.55,-4.79 18.55,-1.99 -18.55,-1.99 -18.55,-4.79 ; -17.22,-1.99 -17.22,0.91 -16.02,0.91 -16.02,-1.99 -17.22,-1.99 ; -14.45,-1.99 -13.25,-1.99 -13.25,0.91 -14.45,0.91 -14.45,-1.99 ; -11.68,-1.99 -11.68,0.91 -10.48,0.91 -10.48,-1.99 -11.68,-1.99 ; -8.91,-1.99 -7.71,-1.99 -7.71,0.91 -8.91,0.91 -8.91,-1.99 ; -6.14,-1.99 -4.94,-1.99 -4.94,0.91 -6.14,0.91 -6.14,-1.99 ; -3.37,-1.99 -3.37,0.91 -2.17,0.91 -2.17,-1.99 -3.37,-1.99 ; -0.6,-1.99 0.6,-1.99 0.6,0.91 -0.6,0.91 -0.6,-1.99 ; 2.17,-1.99 2.17,0.91 3.37,0.91 3.37,-1.99 2.17,-1.99 ; 4.94,-1.99 4.94,0.91 6.14,0.91 6.14,-1.99 4.94,-1.99 ; 7.71,-1.99 7.71,0.91 8.91,0.91 8.91,-1.99 7.71,-1.99 ; 10.48,-1.99 10.48,0.91 11.68,0.91 11.68,-1.99 10.48,-1.99 ; 13.25,-1.99 14.45,-1.99 14.45,0.91 13.25,0.91 13.25,-1.99 ; 16.02,-1.99 17.22,-1.99 17.22,0.91 16.02,0.91 16.02,-1.99
  text "'.Designator'" at -4.047,-4.23 h1

## DSUB-25_Male_Horizontal_P2.77x2.54mm_EdgePinOffset9.40mm [mm]
pads (25):
  rect 1.6x1.6 hole 1: 1(0,0)
  round 1.6 hole 1: 2(2.77,0) 3(5.54,0) 4(8.31,0) 5(11.08,0) 6(13.85,0) 7(16.62,0) 8(19.39,0) 9(22.16,0) 10(24.93,0) 11(27.7,0) 12(30.47,0) 13(33.24,0) 14(1.385,-2.54) 15(4.155,-2.54) 16(6.925,-2.54) 17(9.695,-2.54) 18(12.465,-2.54) 19(15.235,-2.54) 20(18.005,-2.54) 21(20.775,-2.54) 22(23.545,-2.54) 23(26.315,-2.54) 24(29.085,-2.54) 25(31.855,-2.54)
F.SilkS:
  lines w0.12: -2.99,-11.88 -2.99,-7.78 -1.06,-7.78 -1.06,1.06 34.3,1.06 34.3,-7.78 36.23,-7.78 36.23,-11.88 ; -0.25,1.754 0,1.321 0.25,1.754 -0.25,1.754
F.CrtYd:
  lines w0.05: -10.45,-12.85 -10.45,-11.45 -3.45,-11.45 -3.45,-7.35 -1.3,-7.35 -1.3,1.35 34.55,1.35 34.55,-7.35 36.7,-7.35 36.7,-11.45 43.7,-11.45 43.7,-12.85 36.3,-12.85 36.3,-18.85 -3.05,-18.85 -3.05,-12.85 -10.45,-12.85
F.Fab:
  lines w0.1: -0.1,-7.84 -0.1,0 ; 0,-7.84 0,0 ; 0.1,-7.84 0.1,0 ; 1.285,-7.84 1.285,-2.54 ; 1.385,-7.84 1.385,-2.54 ; 1.485,-7.84 1.485,-2.54 ; 2.67,-7.84 2.67,0 ; 2.77,-7.84 2.77,0 ; 2.87,-7.84 2.87,0 ; 4.055,-7.84 4.055,-2.54 ; 4.155,-7.84 4.155,-2.54 ; 4.255,-7.84 4.255,-2.54 ; 5.44,-7.84 5.44,0 ; 5.54,-7.84 5.54,0 ; 5.64,-7.84 5.64,0 ; 6.825,-7.84 6.825,-2.54 ; 6.925,-7.84 6.925,-2.54 ; 7.025,-7.84 7.025,-2.54 ; 8.21,-7.84 8.21,0 ; 8.31,-7.84 8.31,0 ; 8.41,-7.84 8.41,0 ; 9.595,-7.84 9.595,-2.54 ; 9.695,-7.84 9.695,-2.54 ; 9.795,-7.84 9.795,-2.54 ; 10.98,-7.84 10.98,0 ; 11.08,-7.84 11.08,0 ; 11.18,-7.84 11.18,0 ; 12.365,-7.84 12.365,-2.54 ; 12.465,-7.84 12.465,-2.54 ; 12.565,-7.84 12.565,-2.54 ; 13.75,-7.84 13.75,0 ; 13.85,-7.84 13.85,0 ; 13.95,-7.84 13.95,0 ; 15.135,-7.84 15.135,-2.54 ; 15.235,-7.84 15.235,-2.54 ; 15.335,-7.84 15.335,-2.54 ; 16.52,-7.84 16.52,0 ; 16.62,-7.84 16.62,0 ; 16.72,-7.84 16.72,0 ; 17.905,-7.84 17.905,-2.54 ; 18.005,-7.84 18.005,-2.54 ; 18.105,-7.84 18.105,-2.54 ; 19.29,-7.84 19.29,0 ; 19.39,-7.84 19.39,0 ; 19.49,-7.84 19.49,0 ; 20.675,-7.84 20.675,-2.54 ; 20.775,-7.84 20.775,-2.54 ; 20.875,-7.84 20.875,-2.54 ; 22.06,-7.84 22.06,0 ; 22.16,-7.84 22.16,0 ; 22.26,-7.84 22.26,0 ; 23.445,-7.84 23.445,-2.54 ; 23.545,-7.84 23.545,-2.54 ; 23.645,-7.84 23.645,-2.54 ; 24.83,-7.84 24.83,0 ; 24.93,-7.84 24.93,0 ; 25.03,-7.84 25.03,0 ; 26.215,-7.84 26.215,-2.54 ; 26.315,-7.84 26.315,-2.54 ; 26.415,-7.84 26.415,-2.54 ; 27.6,-7.84 27.6,0 ; 27.7,-7.84 27.7,0 ; 27.8,-7.84 27.8,0 ; 28.985,-7.84 28.985,-2.54 ; 29.085,-7.84 29.085,-2.54 ; 29.185,-7.84 29.185,-2.54 ; 30.37,-7.84 30.37,0 ; 30.47,-7.84 30.47,0 ; 30.57,-7.84 30.57,0 ; 31.755,-7.84 31.755,-2.54 ; 31.855,-7.84 31.855,-2.54 ; 31.955,-7.84 31.955,-2.54 ; 33.14,-7.84 33.14,0 ; 33.24,-7.84 33.24,0 ; 33.34,-7.84 33.34,0 ; -9.93,-12.34 -9.93,-11.94 43.17,-11.94 43.17,-12.34 -9.93,-12.34 ; -2.93,-11.94 -2.93,-7.84 36.17,-7.84 36.17,-11.94 -2.93,-11.94 ; -2.53,-18.34 35.77,-18.34 35.77,-12.34 -2.53,-12.34 -2.53,-18.34
  text "'.Designator'" at 12.573,-16.18 h1

## DSUB-25_Male_Horizontal_P2.77x2.84mm_EdgePinOffset4.94mm_Housed_MountingHolesOffset7.48mm [mm]
pads (27):
  round 4 hole 3.2: 0(-6.93,-0.3) 0(40.17,-0.3)
  rect 1.6x1.6 hole 1: 1(0,0)
  round 1.6 hole 1: 2(2.77,0) 3(5.54,0) 4(8.31,0) 5(11.08,0) 6(13.85,0) 7(16.62,0) 8(19.39,0) 9(22.16,0) 10(24.93,0) 11(27.7,0) 12(30.47,0) 13(33.24,0) 14(1.385,-2.84) 15(4.155,-2.84) 16(6.925,-2.84) 17(9.695,-2.84) 18(12.465,-2.84) 19(15.235,-2.84) 20(18.005,-2.84) 21(20.775,-2.84) 22(23.545,-2.84) 23(26.315,-2.84) 24(29.085,-2.84) 25(31.855,-2.84)
F.SilkS:
  lines w0.12: -9.99,-7.72 -9.99,2.76 43.23,2.76 43.23,-7.72 ; -0.25,3.654 0.25,3.654 0,3.221 -0.25,3.654
F.CrtYd:
  lines w0.05: -10.45,-14.7 -10.45,3.25 43.7,3.25 43.7,-14.7 -10.45,-14.7
F.Fab:
  lines w0.1: -8.53,-7.78 -8.53,-0.3 cw(c-6.93,-0.3) -5.33,-0.3 -5.33,-7.78 ; 38.57,-7.78 38.57,-0.3 cw(c40.17,-0.3) 41.77,-0.3 41.77,-7.78 ; -9.93,-7.78 43.17,-7.78 ; -9.93,-7.78 43.17,-7.78 ; -9.93,-7.78 -9.93,-8.18 43.17,-8.18 43.17,-7.78 ; -9.93,-7.78 -9.93,2.7 43.17,2.7 43.17,-7.78 ; -9.43,-13.18 -9.43,-8.18 -4.43,-8.18 -4.43,-13.18 -9.43,-13.18 ; -2.53,-14.18 35.77,-14.18 35.77,-8.18 -2.53,-8.18 -2.53,-14.18 ; 37.67,-13.18 42.67,-13.18 42.67,-8.18 37.67,-8.18 37.67,-13.18
  text "'.Designator'" at 12.573,-12.02 h1

## DSUB-25_Male_Horizontal_P2.77x2.84mm_EdgePinOffset7.70mm_Housed_MountingHolesOffset9.12mm [mm]
pads (27):
  round 4 hole 3.2: 0(-6.93,-1.42) 0(40.17,-1.42)
  rect 1.6x1.6 hole 1: 1(0,0)
  round 1.6 hole 1: 2(2.77,0) 3(5.54,0) 4(8.31,0) 5(11.08,0) 6(13.85,0) 7(16.62,0) 8(19.39,0) 9(22.16,0) 10(24.93,0) 11(27.7,0) 12(30.47,0) 13(33.24,0) 14(1.385,-2.84) 15(4.155,-2.84) 16(6.925,-2.84) 17(9.695,-2.84) 18(12.465,-2.84) 19(15.235,-2.84) 20(18.005,-2.84) 21(20.775,-2.84) 22(23.545,-2.84) 23(26.315,-2.84) 24(29.085,-2.84) 25(31.855,-2.84)
F.SilkS:
  lines w0.12: -9.99,-10.48 -9.99,1.86 43.23,1.86 43.23,-10.48 ; -0.25,2.754 0.25,2.754 0,2.321 -0.25,2.754
F.CrtYd:
  lines w0.05: -10.45,-17.45 -10.45,2.35 43.7,2.35 43.7,-17.45 -10.45,-17.45
F.Fab:
  lines w0.1: -8.53,-10.54 -8.53,-1.42 cw(c-6.93,-1.42) -5.33,-1.42 -5.33,-10.54 ; 38.57,-10.54 38.57,-1.42 cw(c40.17,-1.42) 41.77,-1.42 41.77,-10.54 ; -9.93,-10.54 43.17,-10.54 ; -9.93,-10.54 -9.93,1.8 43.17,1.8 43.17,-10.54 ; -9.93,-10.54 -9.93,-10.94 43.17,-10.94 43.17,-10.54 ; -9.93,-10.54 43.17,-10.54 ; -9.43,-15.94 -4.43,-15.94 -4.43,-10.94 -9.43,-10.94 -9.43,-15.94 ; -2.53,-16.94 35.77,-16.94 35.77,-10.94 -2.53,-10.94 -2.53,-16.94 ; 37.67,-15.94 42.67,-15.94 42.67,-10.94 37.67,-10.94 37.67,-15.94
  text "'.Designator'" at 12.573,-14.78 h1